# Altium footprint library EMW3162-DIP.PcbLib: 1 footprints
Each footprint in its own frame and in the unit in brackets; x right, y up, seen from the top. Pads: shape width x height; smd on the part's side, far side on the other; paste and mask are expansions set on the pad; w line width, h text height; cw(c..) or ccw(c..) is an arc to the next point about the centre after c.
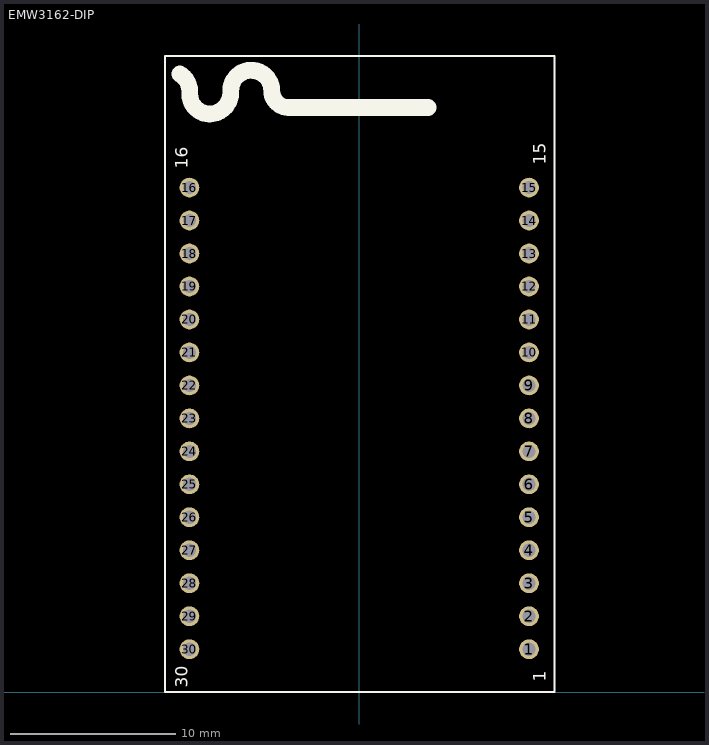
[diagram p0: the footprint, top view; thin cyan lines are the x and y axes]

## EMW3162-DIP [mm]
pads (30):
  round 1.2 / inner round 1 / far side round 1.2 hole 0.8: 1(10.3,2.598) 2(10.3,4.598) 3(10.3,6.598) 4(10.3,8.598) 5(10.3,10.598) 6(10.3,12.598) 7(10.3,14.598) 8(10.3,16.598) 9(10.3,18.598) 10(10.3,20.598) 11(10.3,22.598) 12(10.3,24.598) 13(10.3,26.598) 14(10.3,28.598) 15(10.3,30.598) 16(-10.3,30.598) 17(-10.3,28.598) 18(-10.3,26.598) 19(-10.3,24.598) 20(-10.3,22.598) 21(-10.3,20.598) 22(-10.3,18.598) 23(-10.3,16.598) 24(-10.3,14.598) 25(-10.3,12.598) 26(-10.3,10.598) 27(-10.3,8.598) 28(-10.3,6.598) 29(-10.3,4.598) 30(-10.3,2.598)
Top Overlay:
  lines w0.127: -11.787,-0.009 -11.787,38.589 11.835,38.589 11.835,-0.009 -11.787,-0.009
  lines w1.016: -10.881,37.492 cw(c-11.504,36.444) -10.285,36.444 -10.285,36.268 ccw(c-9.082,36.268) -9.929,35.413 ccw(c-9.083,36.268) -9.083,35.065 ccw(c-9.083,36.351) -8.469,35.221 ccw(c-9.082,36.352) -7.796,36.352 -7.796,36.469 cw(c-6.551,36.469) -7.403,37.377 cw(c-6.551,36.469) -6.229,37.671 cw(c-6.551,36.469) -5.487,37.114 cw(c-6.551,36.47) -5.307,36.469 ccw(c-4.291,36.469) -4.291,35.453 4.178,35.453
  text "1" at 11.327,0.626 h0.76
  text "15" at 11.327,31.995 h0.76
  text "16" at -10.39,31.741 h0.76
  text "30" at -10.39,0.245 h0.76
3D body: height 1.2, standoff 0, extent 10.532,2.298 11.131,2.898
3D body: height 0.1, standoff 0, extent -4.786,34.958 -3.77,35.974
3D body: height 0.1, standoff 0, extent -5.721,35.594 -4.705,36.61
3D body: height 0.1, standoff 0, extent -5.651,35.464 -4.635,36.48
3D body: height 0.1, standoff 0, extent -5.521,35.274 -4.505,36.29
3D body: height 0.1, standoff 0, extent -5.421,35.184 -4.405,36.2
3D body: height 0.1, standoff 0, extent -5.261,35.094 -4.246,36.11
3D body: height 0.1, standoff 0, extent -5.121,35.034 -4.105,36.05
3D body: height 0.1, standoff 0, extent -4.991,34.974 -3.975,35.99
3D body: height 0.1, standoff 0, extent -5.791,35.814 -4.775,36.83
3D body: height 0.1, standoff 0, extent -5.802,35.974 -4.786,36.99
3D body: height 0.1, standoff 0, extent -5.801,36.114 -4.785,37.13
3D body: height 0.1, standoff 0, extent -5.821,36.224 -4.805,37.24
3D body: height 0.1, standoff 0, extent -5.831,36.294 -4.815,37.31
3D body: height 0.1, standoff 0, extent -5.881,36.444 -4.866,37.46
3D body: height 0.1, standoff 0, extent -5.981,36.619 -4.966,37.634
3D body: height 0.1, standoff 0, extent -6.091,36.764 -5.075,37.78
3D body: height 0.1, standoff 0, extent -6.191,36.874 -5.175,37.89
3D body: height 0.1, standoff 0, extent -6.261,36.944 -5.245,37.96
3D body: height 0.1, standoff 0, extent -6.311,36.974 -5.295,37.99
3D body: height 0.1, standoff 0, extent -6.381,37.024 -5.365,38.04
3D body: height 0.1, standoff 0, extent -6.401,37.044 -5.385,38.06
3D body: height 0.1, standoff 0, extent -6.521,37.104 -5.506,38.12
3D body: height 1.01, standoff 0, extent -6.621,37.144 -5.605,38.16
3D body: height 0.1, standoff 0, extent -6.751,37.184 -5.735,38.2
3D body: height 0.1, standoff 0, extent -6.901,37.204 -5.885,38.22
3D body: height 0.1, standoff 0, extent -7.051,37.214 -6.035,38.23
3D body: height 0.1, standoff 0, extent -7.181,37.204 -6.165,38.22
3D body: height 0.1, standoff 0, extent -7.291,37.184 -6.275,38.2
3D body: height 0.1, standoff 0, extent -7.481,37.124 -6.466,38.14
3D body: height 0.1, standoff 0, extent -7.671,37.044 -6.655,38.06
3D body: height 0.1, standoff 0, extent -7.811,36.944 -6.796,37.96
3D body: height 0.1, standoff 0, extent -7.941,36.824 -6.925,37.84
3D body: height 0.1, standoff 0, extent -8.041,36.704 -7.025,37.72
3D body: height 0.1, standoff 0, extent -8.121,36.594 -7.106,37.61
3D body: height 0.1, standoff 0, extent -8.181,36.474 -7.165,37.49
3D body: height 0.1, standoff 0, extent -8.241,36.324 -7.225,37.34
3D body: height 0.1, standoff 0, extent -8.271,36.154 -7.255,37.17
3D body: height 0.1, standoff 0, extent -8.281,36.034 -7.265,37.05
3D body: height 0.1, standoff 0, extent -8.281,35.904 -7.265,36.92
3D body: height 0.1, standoff 0, extent -8.291,35.714 -7.275,36.73
3D body: height 0.1, standoff 0, extent -8.321,35.544 -7.305,36.56
3D body: height 0.1, standoff 0, extent -8.361,35.414 -7.345,36.43
3D body: height 0.1, standoff 0, extent -8.411,35.304 -7.395,36.32
3D body: height 0.1, standoff 0, extent -8.501,35.134 -7.485,36.15
3D body: height 0.1, standoff 0, extent -8.611,35.004 -7.595,36.02
3D body: height 0.1, standoff 0, extent -8.731,34.884 -7.715,35.9
3D body: height 0.1, standoff 0, extent -8.851,34.794 -7.835,35.81
3D body: height 0.1, standoff 0, extent -8.971,34.724 -7.955,35.74
3D body: height 0.1, standoff 0, extent -9.101,34.664 -8.085,35.68
3D body: height 0.1, standoff 0, extent -9.261,34.614 -8.245,35.63
3D body: height 0.1, standoff 0, extent -9.381,34.594 -8.365,35.61
3D body: height 0.1, standoff 0, extent -9.471,34.584 -8.455,35.6
3D body: height 0.1, standoff 0, extent -9.611,34.584 -8.595,35.6
3D body: height 0.1, standoff 0, extent -9.721,34.584 -8.705,35.6
3D body: height 0.1, standoff 0, extent -9.851,34.614 -8.835,35.63
3D body: height 0.1, standoff 0, extent -9.981,34.654 -8.965,35.67
3D body: height 0.1, standoff 0, extent -10.161,34.734 -9.145,35.75
3D body: height 0.1, standoff 0, extent -10.291,34.824 -9.275,35.84
3D body: height 0.1, standoff 0, extent -10.481,34.984 -9.465,36
3D body: height 0.1, standoff 0, extent -10.571,35.104 -9.555,36.12
3D body: height 0.1, standoff 0, extent -10.651,35.254 -9.636,36.27
3D body: height 0.1, standoff 0, extent -10.711,35.374 -9.695,36.39
3D body: height 0.1, standoff 0, extent -10.741,35.484 -9.725,36.5
3D body: height 0.1, standoff 0, extent -10.761,35.614 -9.745,36.63
3D body: height 0.1, standoff 0, extent -10.771,35.724 -9.755,36.74
3D body: height 0.1, standoff 0, extent -10.771,35.864 -9.755,36.88
3D body: height 0.1, standoff 0, extent -10.771,36.034 -9.755,37.05
3D body: height 0.1, standoff 0, extent -10.791,36.114 -9.775,37.13
3D body: height 0.1, standoff 0, extent -10.811,36.234 -9.795,37.25
3D body: height 0.1, standoff 0, extent -10.851,36.384 -9.835,37.4
3D body: height 0.1, standoff 0, extent -10.901,36.484 -9.885,37.5
3D body: height 0.1, standoff 0, extent -10.951,36.574 -9.935,37.59
3D body: height 0.1, standoff 0, extent -11.021,36.684 -10.005,37.7
3D body: height 0.1, standoff 0, extent -11.361,36.984 -10.345,38
3D body: height 0.1, standoff 0, extent -11.231,36.894 -10.215,37.91
3D body: height 0.1, standoff 0, extent -11.131,36.804 -10.115,37.82
3D body: height 1, standoff 0, extent -4.408,34.954 4.216,35.97
3D body: height 1, standoff 0, extent 3.62,34.844 4.965,36.19
3D body: height 1, standoff 0, extent 3.266,34.49 5.319,36.544
3D body: height 0.99, standoff 0, extent -11.774,32.972 5.376,38.583
3D body "User Library-MM8430-2610.STEP": height 2.75, standoff 1, extent 3.555,29.78 6.555,32.78
3D body "SW3dPS-U.FL-R-SMT-1.STEP": height 2.45, standoff 1.19, extent 8.228,34.505 11.228,37.605
3D body: height 1.2, standoff 0, extent 10.532,6.298 11.131,6.898
3D body: height 1.2, standoff 0, extent 10.532,4.298 11.131,4.898
3D body: height 1.2, standoff 0, extent 10.532,14.298 11.131,14.898
3D body: height 1.2, standoff 0, extent 10.532,12.298 11.131,12.898
3D body: height 1.2, standoff 0, extent 10.532,8.298 11.131,8.898
3D body: height 1.2, standoff 0, extent 10.532,10.298 11.131,10.898
3D body: height 1.2, standoff 0, extent 10.532,22.298 11.131,22.898
3D body: height 1.2, standoff 0, extent 10.532,20.298 11.131,20.898
3D body: height 1.2, standoff 0, extent 10.532,16.298 11.131,16.898
3D body: height 1.2, standoff 0, extent 10.532,18.298 11.131,18.898
3D body: height 1.2, standoff 0, extent 10.532,30.298 11.131,30.898
3D body: height 1.2, standoff 0, extent 10.532,28.298 11.131,28.898
3D body: height 1.2, standoff 0, extent 10.532,24.298 11.131,24.898
3D body: height 1.2, standoff 0, extent 10.532,26.298 11.131,26.898
3D body: height 1.2, standoff 0, extent -11.068,6.298 -10.469,6.898
3D body: height 1.2, standoff 0, extent -11.068,4.298 -10.469,4.898
3D body: height 1.2, standoff 0, extent -11.068,2.298 -10.469,2.898
3D body: height 1.2, standoff 0, extent -11.068,14.298 -10.469,14.898
3D body: height 1.2, standoff 0, extent -11.068,12.298 -10.469,12.898
3D body: height 1.2, standoff 0, extent -11.068,8.298 -10.469,8.898
3D body: height 1.2, standoff 0, extent -11.068,10.298 -10.469,10.898
3D body: height 1.2, standoff 0, extent -11.068,22.298 -10.469,22.898
3D body: height 1.2, standoff 0, extent -11.068,20.298 -10.469,20.898
3D body: height 1.2, standoff 0, extent -11.068,16.298 -10.469,16.898
3D body: height 1.2, standoff 0, extent -11.068,18.298 -10.469,18.898
3D body: height 1.2, standoff 0, extent -11.068,26.298 -10.469,26.898
3D body: height 1.2, standoff 0, extent -11.068,24.298 -10.469,24.898
3D body: height 1.2, standoff 0, extent -11.068,28.298 -10.469,28.898
3D body: height 1, standoff 0, extent -11.069,30.299 -10.469,30.898
3D body: height 1, standoff 0, extent -11.798,0 11.824,38.583
3D body: height 1, standoff 0, extent -11.798,29.997 -10.169,31.198
3D body: height 1, standoff 0, extent -11.798,28.003 -10.169,29.204
3D body: height 1, standoff 0, extent -11.798,24.003 -10.169,25.203
3D body: height 1, standoff 0, extent -11.798,25.997 -10.169,27.197
3D body: height 1, standoff 0, extent -11.798,17.996 -10.169,19.196
3D body: height 1, standoff 0, extent -11.798,15.989 -10.169,17.19
3D body: height 1, standoff 0, extent -11.798,20.002 -10.169,21.203
3D body: height 1, standoff 0, extent -11.798,21.996 -10.169,23.197
3D body: height 1, standoff 0, extent -11.798,9.995 -10.169,11.189
3D body: height 1, standoff 0, extent -11.798,8.001 -10.169,9.195
3D body: height 1, standoff 0, extent -11.798,12.002 -10.169,13.195
3D body: height 1, standoff 0, extent -11.798,13.995 -10.169,15.196
3D body: height 1, standoff 0, extent -11.798,1.994 -10.169,3.188
3D body: height 1, standoff 0, extent -11.798,4 -10.169,5.194
3D body: height 1, standoff 0, extent -11.798,5.994 -10.169,7.188
3D body: height 1, standoff 0, extent 10.211,5.994 11.84,7.188
3D body: height 1, standoff 0, extent 10.211,4 11.84,5.194
3D body: height 1, standoff 0, extent 10.211,1.981 11.84,3.175
3D body: height 1, standoff 0, extent 10.211,13.995 11.84,15.189
3D body: height 1, standoff 0, extent 10.211,12.002 11.84,13.195
3D body: height 1, standoff 0, extent 10.211,7.988 11.84,9.182
3D body: height 1, standoff 0, extent 10.211,9.982 11.84,11.176
3D body: height 1, standoff 0, extent 10.211,21.996 11.84,23.19
3D body: height 1, standoff 0, extent 10.211,20.002 11.84,21.196
3D body: height 1, standoff 0, extent 10.211,15.989 11.84,17.183
3D body: height 1, standoff 0, extent 10.211,17.996 11.84,19.19
3D body: height 1, standoff 0, extent 10.211,25.997 11.84,27.191
3D body: height 1, standoff 0, extent 10.211,24.003 11.84,25.197
3D body: height 1, standoff 0, extent 10.211,28.003 11.84,29.197
3D body: height 1, standoff 0, extent 10.211,29.997 11.84,31.191
3D body: height 1, standoff 0.01, extent 11.358,26.132 11.849,27.133
3D body: height 1, standoff 0.01, extent 11.358,28.132 11.849,29.133
3D body: height 1, standoff 0.01, extent 11.358,30.132 11.849,31.133
3D body: height 1, standoff 0.01, extent 11.358,14.132 11.849,15.133
3D body: height 1, standoff 0.01, extent 11.358,16.132 11.849,17.133
3D body: height 1, standoff 0.01, extent 11.358,20.132 11.849,21.133
3D body: height 1, standoff 0.01, extent 11.358,18.132 11.849,19.133
3D body: height 1, standoff 0.01, extent 11.358,24.132 11.849,25.133
3D body: height 1, standoff 0.01, extent 11.358,22.132 11.849,23.133
3D body: height 1, standoff 0.01, extent 11.358,2.132 11.849,3.133
3D body: height 1, standoff 0.01, extent 11.358,4.132 11.849,5.133
3D body: height 1, standoff 0.01, extent 11.358,8.132 11.849,9.133
3D body: height 1, standoff 0.01, extent 11.358,6.132 11.849,7.133
3D body: height 1, standoff 0.01, extent 11.358,12.132 11.849,13.133
3D body: height 1, standoff 0.01, extent 11.358,10.132 11.849,11.133
3D body: height 1, standoff 0.01, extent -11.798,6.107 -11.307,7.107
3D body: height 1, standoff 0.01, extent -11.798,4.106 -11.307,5.107
3D body: height 1, standoff 0.01, extent -11.798,2.107 -11.307,3.107
3D body: height 1, standoff 0.01, extent -11.798,18.107 -11.307,19.107
3D body: height 1, standoff 0.01, extent -11.798,16.106 -11.307,17.107
3D body: height 1, standoff 0.01, extent -11.798,12.106 -11.307,13.107
3D body: height 1, standoff 0.01, extent -11.798,14.107 -11.307,15.107
3D body: height 1, standoff 0.01, extent -11.798,8.106 -11.307,9.107
3D body: height 1, standoff 0.01, extent -11.798,10.107 -11.307,11.107
3D body: height 1, standoff 0.01, extent -11.798,30.107 -11.307,31.107
3D body: height 1, standoff 0.01, extent -11.798,28.106 -11.307,29.107
3D body: height 1, standoff 0.01, extent -11.798,24.106 -11.307,25.107
3D body: height 1, standoff 0.01, extent -11.798,26.107 -11.307,27.107
3D body: height 1, standoff 0.01, extent -11.798,20.106 -11.307,21.107
3D body: height 1, standoff 0.01, extent -11.798,22.107 -11.307,23.107
3D body: height 3.7, standoff 1, extent -8.89,17.78 6.477,32.766
3D body: height 2.5, standoff 1, extent -3.016,3.286 7.08,12.97
3D body "User Library-SX3215.STEP": height 1.81, standoff 1, extent -8.37,9.449 -6.87,12.649
3D body "User Library-3225-1.STEP": height 1.61, standoff 1, extent -8.382,4.623 -5.882,7.823
3D body "SW3DPS-SOT-23-DEFAULT.STEP": height 2.08, standoff 0.98, extent -6.453,14.625 -3.453,17.125